# Altium integrated library Resistor array 8.IntLib: 1 symbol
Pins are listed as number, name and electrical type; pins without a type are passive.

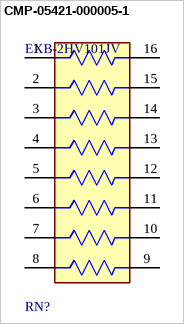
[diagram p0: symbol CMP-05421-000005-1]

## CMP-05421-000005-1
designator RN?, comment EXB-2HV101JV
RES ARRAY 8 RES 100 OHM 1506; Temperature Coefficient: 200ppm/°C; Number of Contacts: 16; Power Per Element: 62.5mW; Power Rating: 250mW; Resistance Tolerance: 5%; Circuit Type: Isolated; Number of Resistors: 8; Voltage Rating: 25V; Power Dissipation: 63mW; Resistance: 100R; Voltage Rating (DC): 50V; Case/Package: 1506; Depth: 1.6mm; Thickness: 450um; Max Operating Temperature: 125°C; Mount: Surface Mount; Case Code (Imperial): 0402; Min Operating Temperature: -55°C; Termination: Convex; Packaging: Tape and Reel; Number of Terminals/Pins: 16; Technology: THICK FILM; Lead Free: Lead Free; Length: 3.8mm; Size Code: 0402; Tolerance: 5%; Number of Pins: 16; Series: EXB; Height: 0.022inch; Width: 0.063inch; Military Standard: Not; Terminal Pitch: 0.5mm; RoHS Compliant: Yes; Radiation Hardening: No; Case Code (Metric): 1005; REACH SVHC: No SVHC; Contact Plating: Tin; Package Quantity: 1; Number of Elements: 8
footprint FP-EXB2HV-MFG
pins: 1, 2, 3, 4, 5, 6, 7, 8, 9, 10, 11, 12, 13, 14, 15, 16